# Altium schematic symbol library Schematics_Passives.SchLib: 4 symbols
Pins are listed as number, name and electrical type; pins without a type are passive.

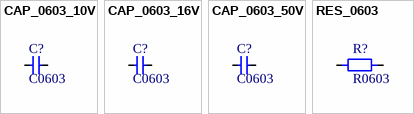
[diagram p0: symbols CAP_0603_10V to RES_0603]

## CAP_0603_10V
designator C?, comment C0603
Capacitor SMD 0603 10V
footprint CAP_0603
pins: 1, 2

## CAP_0603_16V
designator C?, comment C0603
Capacitor SMD 0603 16V
footprint CAP_0603
pins: 1, 2

## CAP_0603_50V
designator C?, comment C0603
Capacitor SMD 0603 50V
footprint CAP_0603
pins: 1, 2

## RES_0603
designator R?, comment R0603
Resistor SMD 0603
footprint R_0603
footprint RES_0603
pins: 1, 2